# EAGLE library part HCF4075BEY (library ST Microelctronics_By_element14_Batch_1)
OR GATE
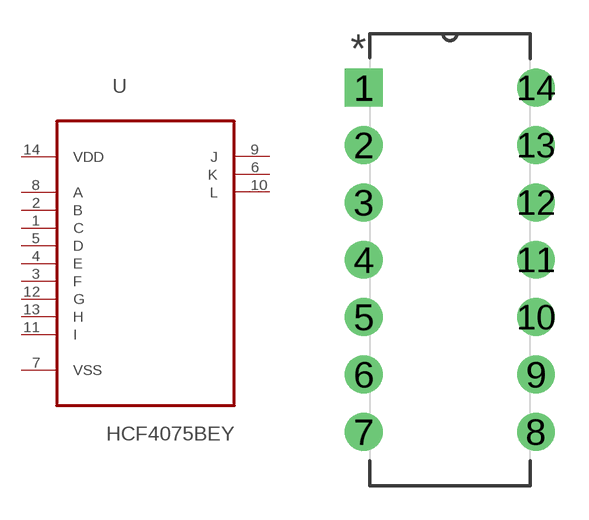
[diagram p18: symbol with the pads of DIP254P762X510-14; footprint DIP254P762X510-14]

Designator prefix U

## HCF4075BEY (MPN: HCF4075BEY; OC_FARNELL: 1094198; OC_NEWARK: 89K0585; PACKAGE: 14-DIP; SUPPLIER: STMICROELECTRONICS)  [DIP254P762X510-14]
1  C  in
2  B  in
3  F  in
4  E  in
5  D  in
6  K  out
7  VSS  pwr
8  A  in
9  J  out
10  L  out
11  I  in
12  G  in
13  H  in
14  VDD  pwr

## Footprint DIP254P762X510-14 (pad centres in mm)
drill 1.118 square: 1 -7.62,15.24
drill 1.118: 2 -7.62,12.7; 3 -7.62,10.16; 4 -7.62,7.62; 5 -7.62,5.08; 6 -7.62,2.54; 7 -7.62,0; 8 0,0; 9 0,2.54; 10 0,5.08; 11 0,7.62; 12 0,10.16; 13 0,12.7; 14 0,15.24